# Altium footprint library BK5811.PcbLib: 15 footprints
Each footprint in its own frame and in the unit in brackets; x right, y up, seen from the top. Pads: shape width x height; smd on the part's side, far side on the other; paste and mask are expansions set on the pad; w line width, h text height; cw(c..) or ccw(c..) is an arc to the next point about the centre after c.
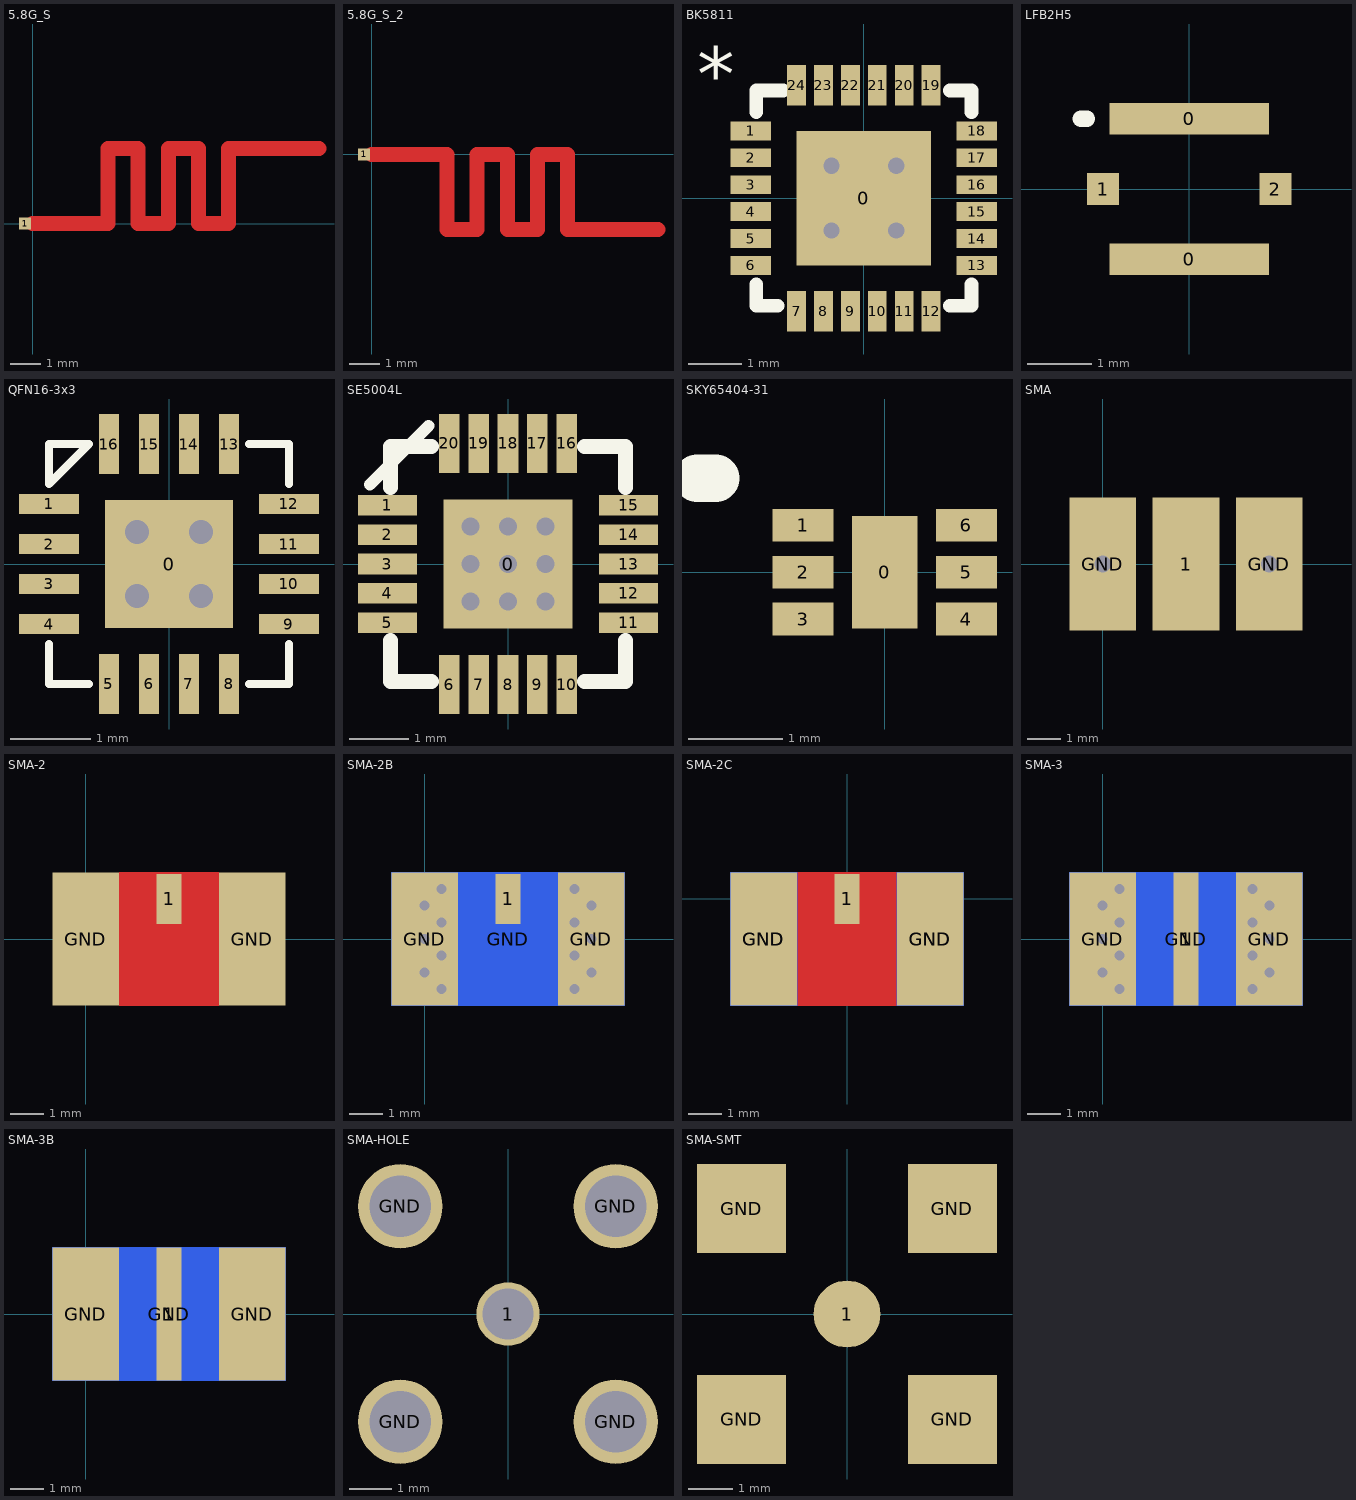
[diagram p0: the footprints below, top view; thin cyan lines are the x and y axes]

## 5.8G_S [mm]
pads (1):
  rect 0.4x0.4 smd: 1(-0.254,0)
Top Layer:
  lines w0.5: 9.5,2.5 6.5,2.5 ; 2.5,0 2.5,2.5 ; 2.5,0 0,0 2.5,0 ; 2.5,0 2.5,2.5 ; 2.5,2.5 3.5,2.5 ; 2.5,2.5 3.5,2.5 ; 3.5,0 4.5,0 ; 3.5,0 3.5,2.5 ; 3.5,0 4.5,0 ; 3.5,0 3.5,2.5 ; 4.5,0 4.5,2.5 ; 4.5,0 4.5,2.5 ; 4.5,2.5 5.5,2.5 ; 4.5,2.5 5.5,2.5 ; 5.5,0 6.5,0 ; 5.5,0 5.5,2.5 ; 5.5,0 6.5,0 ; 5.5,0 5.5,2.5 ; 6.5,0 6.5,2.5 ; 6.5,0 6.5,2.5

## 5.8G_S_2 [mm]
pads (1):
  rect 0.4x0.4 smd: 1(-0.254,0)
Top Layer:
  lines w0.5: 9.5,-2.5 6.5,-2.5 ; 2.5,-2.5 2.5,0 ; 2.5,-2.5 3.5,-2.5 ; 2.5,-2.5 2.5,0 ; 2.5,-2.5 3.5,-2.5 ; 2.5,0 0,0 2.5,0 ; 3.5,-2.5 3.5,0 ; 3.5,-2.5 3.5,0 ; 3.5,0 4.5,0 ; 3.5,0 4.5,0 ; 4.5,-2.5 4.5,0 ; 4.5,-2.5 5.5,-2.5 ; 4.5,-2.5 4.5,0 ; 4.5,-2.5 5.5,-2.5 ; 5.5,-2.5 5.5,0 ; 5.5,-2.5 5.5,0 ; 5.5,0 6.5,0 ; 5.5,0 6.5,0 ; 6.5,-2.5 6.5,0 ; 6.5,-2.5 6.5,0

## BK5811 [mm]
pads (25):
  rect 2.5x2.5 smd: 0(0,0)
  rect 0.75x0.35 smd: 1(-2.1,1.25) 2(-2.1,0.75) 3(-2.1,0.25) 4(-2.1,-0.25) 5(-2.1,-0.75) 6(-2.1,-1.25) 13(2.1,-1.25) 14(2.1,-0.75) 15(2.1,-0.25) 16(2.1,0.25) 17(2.1,0.75) 18(2.1,1.25)
  rect 0.35x0.75 smd: 7(-1.25,-2.1) 8(-0.75,-2.1) 9(-0.25,-2.1) 10(0.25,-2.1) 11(0.75,-2.1) 12(1.25,-2.1) 19(1.25,2.1) 20(0.75,2.1) 21(0.25,2.1) 22(-0.25,2.1) 23(-0.75,2.1) 24(-1.25,2.1)
via 0.6,-0.6 diameter 0.508 hole 0.305
via 0.6,0.6 diameter 0.508 hole 0.305
via -0.6,0.6 diameter 0.508 hole 0.305
via -0.6,-0.6 diameter 0.508 hole 0.305
Top Overlay:
  lines w0.254: -2,-1.6 -2,-2 -1.6,-2 ; -2,1.6 -2,2 -1.5,2 ; 1.6,-2 2,-2 2,-1.6 ; 1.6,2 2,2 2,1.6
  text "*" at -3.1,1.8 h1.02

## LFB2H5 [mm]
pads (4):
  rect 2.5x0.5 smd: 0(0,-1.1) 0(0,1.1)
  rect 0.5x0.5 smd: 1(-1.35,0) 2(1.35,0)
Top Overlay:
  lines w0.254: -1.7,1.1 -1.6,1.1
3D body: height 0.9, standoff 0, extent -1.25,-1 1.25,1

## QFN16-3x3 [mm]
height 1
pads (17):
  rect 1.6x1.6 smd: 0(0,0)
  rect 0.75x0.25 smd: 1(-1.5,0.75) 2(-1.5,0.25) 3(-1.5,-0.25) 4(-1.5,-0.75) 9(1.5,-0.75) 10(1.5,-0.25) 11(1.5,0.25) 12(1.5,0.75)
  rect 0.25x0.75 smd: 5(-0.75,-1.5) 6(-0.25,-1.5) 7(0.25,-1.5) 8(0.75,-1.5) 13(0.75,1.5) 14(0.25,1.5) 15(-0.25,1.5) 16(-0.75,1.5)
via -0.4,0.4 diameter 0.5 hole 0.3
via 0.4,0.4 diameter 0.5 hole 0.3
via 0.4,-0.4 diameter 0.5 hole 0.3
via -0.4,-0.4 diameter 0.5 hole 0.3
Top Overlay:
  lines w0.1: -1.5,-1 -1.5,-1.5 -1,-1.5 ; 1,-1.5 1.5,-1.5 1.5,-1 ; 1,1.5 1.5,1.5 1.5,1 ; -1.5,1 -1.5,1.5 -1,1.5 -1.5,1
3D body: height 0.55, standoff 0, extent -1.5,-1.5 1.5,1.5

## SE5004L [mm]
pads (21):
  rect 2.2x2.2 smd: 0(0,0)
  rect 1x0.35 smd: 1(-2.05,1) 2(-2.05,0.5) 3(-2.05,0) 4(-2.05,-0.5) 5(-2.05,-1) 11(2.05,-1) 12(2.05,-0.5) 13(2.05,0) 14(2.05,0.5) 15(2.05,1)
  rect 0.35x1 smd: 6(-1,-2.05) 7(-0.5,-2.05) 8(0,-2.05) 9(0.5,-2.05) 10(1,-2.05) 16(1,2.05) 17(0.5,2.05) 18(0,2.05) 19(-0.5,2.05) 20(-1,2.05)
via -0.635,-0.635 diameter 0.508 hole 0.305
via 0.635,-0.635 diameter 0.508 hole 0.305
via 0,-0.635 diameter 0.508 hole 0.305
via -0.635,0 diameter 0.508 hole 0.305
via 0,0 diameter 0.508 hole 0.305
via 0.635,0 diameter 0.508 hole 0.305
via 0.635,0.635 diameter 0.508 hole 0.305
via 0,0.635 diameter 0.508 hole 0.305
via -0.635,0.635 diameter 0.508 hole 0.305
Top Overlay:
  lines w0.2: -2.35,1.35 -1.35,2.35
  lines w0.254: -2,-1.302 -2,-2 -1.302,-2 ; -2,1.302 -2,2 -1.302,2 ; 1.302,-2 2,-2 2,-1.302 ; 1.302,2 2,2 2,1.302
3D body: height 0.85, standoff 0, extent -2,-2 2,2

## SKY65404-31 [mm]
pads (7):
  rect 0.7x1.2 smd: 0(0,0)
  rect 0.65x0.35 smd: 1(-0.87,0.5) 2(-0.87,0) 3(-0.87,-0.5) 4(0.87,-0.5) 5(0.87,0) 6(0.87,0.5)
Top Overlay:
  lines w0.508: -2,1 -1.8,1
3D body: height 0.45, standoff 0, extent -0.75,-0.75 0.75,0.75

## SMA [mm]
pads (3):
  rect 2x4 smd: 1(2.5,0)
  rect 2x4 hole 0.5: GND(0,0) GND(5,0)

## SMA-2 [mm]
pads (3):
  rect 0.75x1.5 smd: 1(2.5,1.2)
  rect 2x4 smd: GND(0,0) GND(5,0)
Top Layer:
  pour cut-out: 1,2 4,2 4,-2 1,-2

## SMA-2B [mm]
pads (4):
  rect 0.75x1.5 smd: 1(2.5,1.2)
  rect 2x4 smd: GND(0,0) GND(5,0)
  rect 7x4 smd far side: GND(2.5,0)
via 0.5,1.5 diameter 0.45 hole 0.3
via 0.5,0.5 diameter 0.45 hole 0.3
via 0.5,-0.5 diameter 0.45 hole 0.3
via 0.5,-1.5 diameter 0.45 hole 0.3
via 4.5,-1.5 diameter 0.45 hole 0.3
via 4.5,1.5 diameter 0.45 hole 0.3
via 4.5,-0.5 diameter 0.45 hole 0.3
via 4.5,0.5 diameter 0.45 hole 0.3
via 5,1 diameter 0.45 hole 0.3
via 5,0 diameter 0.45 hole 0.3
via 5,-1 diameter 0.45 hole 0.3
via 0,-1 diameter 0.45 hole 0.3
via 0,1 diameter 0.45 hole 0.3
via 0,0 diameter 0.45 hole 0.3
Top Layer:
  pour cut-out: 1,2 4,2 4,-2 1,-2

## SMA-2C [mm]
pads (5):
  rect 0.75x1.5 smd: 1(0,0)
  rect 2x4 smd: GND(-2.5,-1.2) GND(2.5,-1.2)
  rect 2x4 smd far side: GND(-2.5,-1.2) GND(2.5,-1.2)
Top Layer:
  pour cut-out: -1.5,0.8 1.5,0.8 1.5,-3.2 -1.5,-3.2
Internal Plane 1:
  region: -0.5,0.816 -0.5,-3.248 0.5,-3.248 0.5,0.816

## SMA-3 [mm]
pads (4):
  rect 0.75x4 smd: 1(2.5,0)
  rect 2x4 smd: GND(0,0) GND(5,0)
  rect 7x4 smd far side: GND(2.5,0)
via 0.5,1.5 diameter 0.45 hole 0.3
via 0.5,0.5 diameter 0.45 hole 0.3
via 0.5,-0.5 diameter 0.45 hole 0.3
via 0.5,-1.5 diameter 0.45 hole 0.3
via 4.5,-1.5 diameter 0.45 hole 0.3
via 4.5,1.5 diameter 0.45 hole 0.3
via 4.5,-0.5 diameter 0.45 hole 0.3
via 4.5,0.5 diameter 0.45 hole 0.3
via 5,1 diameter 0.45 hole 0.3
via 5,0 diameter 0.45 hole 0.3
via 5,-1 diameter 0.45 hole 0.3
via 0,-1 diameter 0.45 hole 0.3
via 0,1 diameter 0.45 hole 0.3
via 0,0 diameter 0.45 hole 0.3
Top Layer:
  pour cut-out: 1,2 4,2 4,-2 1,-2

## SMA-3B [mm]
pads (4):
  rect 0.75x4 smd: 1(2.5,0)
  rect 2x4 smd: GND(0,0) GND(5,0)
  rect 7x4 smd far side: GND(2.5,0)
Top Layer:
  pour cut-out: 1,2 4,2 4,-2 1,-2

## SMA-HOLE [mm]
pads (5):
  round 1.5 hole 1.2: 1(0,0)
  round 2 hole 1.45: GND(-2.55,-2.55) GND(-2.55,2.55) GND(2.55,-2.55) GND(2.55,2.55)

## SMA-SMT [mm]
pads (5):
  round 1.5 smd: 1(0,0)
  rect 2x2 smd: GND(-2.37,-2.37) GND(-2.37,2.37) GND(2.37,-2.37) GND(2.37,2.37)